# EAGLE library part ACT4060A (library marius)
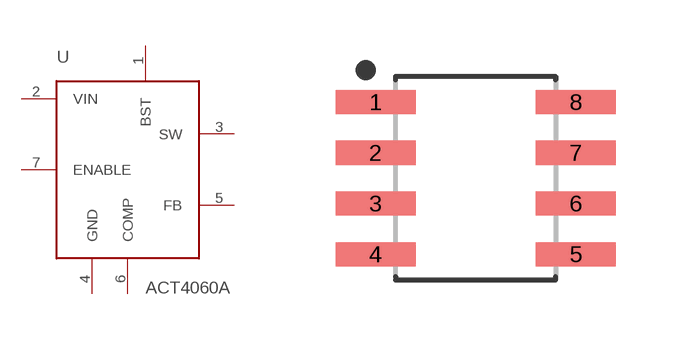
[diagram p9: symbol with the pads of SOIC127P605X175-8; footprint SOIC127P605X175-8]

Designator prefix U

## ACT4060A (MPN: ACT4060ASH-T)  [SOIC127P605X175-8]
1  BST
2  VIN
3  SW
4  GND
5  FB
6  COMP
7  ENABLE

## Footprint SOIC127P605X175-8 (pad centres in mm)
8-SOIC, 1.27 mm pitch, 6.05 mm span, 4.90 X 3.90 X 1.75 mm body 8-pin SOIC package with 1.27 mm pitch, 6.05 mm span with body size 4.90 X 3.90 X 1.75 mm
smd 2.001 x 0.602: 1 -2.506,1.905; 2 -2.506,0.635; 3 -2.506,-0.635; 4 -2.506,-1.905; 5 2.506,-1.905; 6 2.506,-0.635; 7 2.506,0.635; 8 2.506,1.905